# Altium schematic symbol library Transistor.SchLib: 6 symbols
Pins are listed as number, name and electrical type; pins without a type are passive.

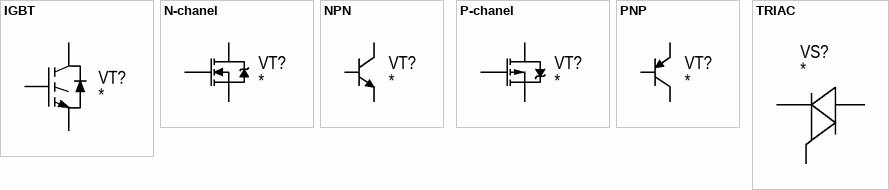
[diagram p0: symbols IGBT to TRIAC]

## IGBT
designator VT?
IGBT; Model: *; Manufacturer: *; ComponentKind: *; HelpURL: *
footprint TO220 (Generic TO-220 case, stay variant)
footprint TO220_132 (Generic TO-220 case, stay variant)
footprint TO220_321 (Generic TO-220 case, stay variant)
footprint TO220_123 (Generic TO-220 case, stay variant)
footprint TO247_123 (3-Lead Plastic TO-247)
footprint TO247_132 (3-Lead Plastic TO-247)
footprint TO247_123_H (3-Lead Plastic TO-247)
footprint TO247_132_H (3-Lead Plastic TO-247)
footprint TO220_123_H (Generic TO-220 case, stay variant)
footprint TO220_132_H (Generic TO-220 case, stay variant)
pins: 1 G, 2 C, 3 E

## N-chanel
designator VT?
Mosfet; Model: *; Manufacturer: *; ComponentKind: *; HelpURL: *
footprint 8-HSOF
footprint TO220_123 (Generic TO-220 case, stay variant)
footprint TO220_132 (Generic TO-220 case, stay variant)
footprint TO220_321 (Generic TO-220 case, stay variant)
footprint TO247_123 (3-Lead Plastic TO-247)
footprint TO247_132 (3-Lead Plastic TO-247)
footprint SOT223 (SOT223, 4-Leads, Body 6,50x7,00mm (avg), Pitch 2,30mm, IPC Medium Density)
footprint SOT223_1324 (SOT223, 4-Leads, Body 6,50x7,00mm (avg), Pitch 2,30mm, IPC Medium Density)
footprint SOT23_123 (SOT23, 3-Leads, Body 3,0x2,6mm (max), Pitch 0,95mm, IPC Medium Density)
footprint SOT23_132 (SOT23, 3-Leads, Body 3,0x2,6mm (max), Pitch 0,95mm, IPC Medium Density)
footprint SOT23_231 (SOT23, 3-Leads, Body 3,0x2,6mm (max), Pitch 0,95mm, IPC Medium Density)
footprint SOT23_321 (SOT23, 3-Leads, Body 3,0x2,6mm (max), Pitch 0,95mm, IPC Medium Density)
footprint SOT89_123 (SOT89, 3-Leads, Body 4,50x2,45mm, Pitch 1,50mm, Lead Span 4,1mm, IPC Medium Density)
footprint SOT89_132 (SOT89, 3-Leads, Body 4,50x2,45mm, Pitch 1,50mm, Lead Span 4,1mm, IPC Medium Density)
footprint DirectFET MN
footprint DirectFET MZ
footprint 8-TDSON
footprint DPAK (D-Pak, Body 6,2x6,7mm)
footprint DPAK_132 (D-Pak, Body 6,2x6,7mm)
footprint TRANS: SO-8
footprint SOT669
footprint TO247_123_H (3-Lead Plastic TO-247)
footprint TO247_132_H (3-Lead Plastic TO-247)
footprint TO220_123_H (Generic TO-220 case, stay variant)
footprint TO220_132_H (Generic TO-220 case, stay variant)
pins: 1 G, 2 D, 3 S

## NPN
designator VT?
Bipolar; Model: *; Manufacturer: *; ComponentKind: *; HelpURL: *
footprint 8-HSOF
footprint TO220_123 (Generic TO-220 case, stay variant)
footprint TO220_132 (Generic TO-220 case, stay variant)
footprint TO220_321 (Generic TO-220 case, stay variant)
footprint TO247_123 (3-Lead Plastic TO-247)
footprint TO247_132 (3-Lead Plastic TO-247)
footprint SOT223 (SOT223, 4-Leads, Body 6,50x7,00mm (avg), Pitch 2,30mm, IPC Medium Density)
footprint SOT223_1324 (SOT223, 4-Leads, Body 6,50x7,00mm (avg), Pitch 2,30mm, IPC Medium Density)
footprint SOT23_123 (SOT23, 3-Leads, Body 3,0x2,6mm (max), Pitch 0,95mm, IPC Medium Density)
footprint SOT23_132 (SOT23, 3-Leads, Body 3,0x2,6mm (max), Pitch 0,95mm, IPC Medium Density)
footprint SOT23_231 (SOT23, 3-Leads, Body 3,0x2,6mm (max), Pitch 0,95mm, IPC Medium Density)
footprint SOT23_321 (SOT23, 3-Leads, Body 3,0x2,6mm (max), Pitch 0,95mm, IPC Medium Density)
footprint SOT89_123 (SOT89, 3-Leads, Body 4,50x2,45mm, Pitch 1,50mm, Lead Span 4,1mm, IPC Medium Density)
footprint SOT89_132 (SOT89, 3-Leads, Body 4,50x2,45mm, Pitch 1,50mm, Lead Span 4,1mm, IPC Medium Density)
pins: 1 B, 2 C, 3 E

## P-chanel
designator VT?
Mosfet; Model: *; Manufacturer: *; ComponentKind: *; HelpURL: *
footprint 8-HSOF
footprint TO220_123 (Generic TO-220 case, stay variant)
footprint TO220_132 (Generic TO-220 case, stay variant)
footprint TO220_321 (Generic TO-220 case, stay variant)
footprint TO247_123 (3-Lead Plastic TO-247)
footprint TO247_132 (3-Lead Plastic TO-247)
footprint SOT223 (SOT223, 4-Leads, Body 6,50x7,00mm (avg), Pitch 2,30mm, IPC Medium Density)
footprint SOT223_1324 (SOT223, 4-Leads, Body 6,50x7,00mm (avg), Pitch 2,30mm, IPC Medium Density)
footprint SOT23_123 (SOT23, 3-Leads, Body 3,0x2,6mm (max), Pitch 0,95mm, IPC Medium Density)
footprint SOT23_132 (SOT23, 3-Leads, Body 3,0x2,6mm (max), Pitch 0,95mm, IPC Medium Density)
footprint SOT23_231 (SOT23, 3-Leads, Body 3,0x2,6mm (max), Pitch 0,95mm, IPC Medium Density)
footprint SOT23_321 (SOT23, 3-Leads, Body 3,0x2,6mm (max), Pitch 0,95mm, IPC Medium Density)
footprint SOT89_123 (SOT89, 3-Leads, Body 4,50x2,45mm, Pitch 1,50mm, Lead Span 4,1mm, IPC Medium Density)
footprint SOT89_132 (SOT89, 3-Leads, Body 4,50x2,45mm, Pitch 1,50mm, Lead Span 4,1mm, IPC Medium Density)
pins: 1 G, 2 D, 3 S

## PNP
designator VT?
Bipolar; Model: *; Manufacturer: *; ComponentKind: *; HelpURL: *
footprint 8-HSOF
footprint TO220_123 (Generic TO-220 case, stay variant)
footprint TO220_132 (Generic TO-220 case, stay variant)
footprint TO220_321 (Generic TO-220 case, stay variant)
footprint SOT223 (SOT223, 4-Leads, Body 6,50x7,00mm (avg), Pitch 2,30mm, IPC Medium Density)
footprint SOT223_1324 (SOT223, 4-Leads, Body 6,50x7,00mm (avg), Pitch 2,30mm, IPC Medium Density)
footprint SOT23_123 (SOT23, 3-Leads, Body 3,0x2,6mm (max), Pitch 0,95mm, IPC Medium Density)
footprint SOT23_132 (SOT23, 3-Leads, Body 3,0x2,6mm (max), Pitch 0,95mm, IPC Medium Density)
footprint SOT23_231 (SOT23, 3-Leads, Body 3,0x2,6mm (max), Pitch 0,95mm, IPC Medium Density)
footprint SOT23_321 (SOT23, 3-Leads, Body 3,0x2,6mm (max), Pitch 0,95mm, IPC Medium Density)
footprint SOT89_123 (SOT89, 3-Leads, Body 4,50x2,45mm, Pitch 1,50mm, Lead Span 4,1mm, IPC Medium Density)
footprint SOT89_132 (SOT89, 3-Leads, Body 4,50x2,45mm, Pitch 1,50mm, Lead Span 4,1mm, IPC Medium Density)
pins: 1 B, 2 E, 3 C

## TRIAC
designator VS?
Bipolar; Model: *; Manufacturer: *; ComponentKind: *; HelpURL: *
footprint TO220_123 (Generic TO-220 case, stay variant)
footprint TO220_132 (Generic TO-220 case, stay variant)
footprint TO220_321 (Generic TO-220 case, stay variant)
footprint TO247_123 (3-Lead Plastic TO-247)
footprint TO247_132 (3-Lead Plastic TO-247)
pins: 1, 2, 3